# Altium schematic symbol library U_AS4C4M16D1A-66.SchLib: 1 symbol
Pins are listed as number, name and electrical type; pins without a type are passive.

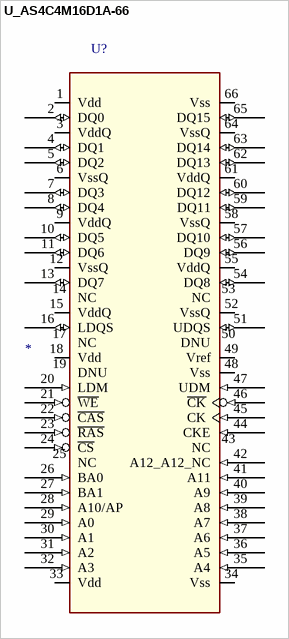
[diagram p0: symbol U_AS4C4M16D1A-66]

## U_AS4C4M16D1A-66
designator U?
pins: 1 Vdd (power), 2 DQ0 (io), 3 VddQ (power), 4 DQ1 (io), 5 DQ2 (io), 6 VssQ (power), 7 DQ3 (io), 8 DQ4 (io), 9 VddQ (power), 10 DQ5 (io), 11 DQ6 (io), 12 VssQ (power), 13 DQ7 (io), 14 NC, 15 VddQ (power), 16 LDQS (io), 17 NC, 18 Vdd (power), 19 DNU, 20 LDM (in), 21 ~{WE} (in), 22 ~{CAS} (in), 23 ~{RAS} (in), 24 ~{CS} (in), 25 NC, 26 BA0 (in), 27 BA1 (in), 28 A10/AP (in), 29 A0 (in), 30 A1 (in), 31 A2 (in), 32 A3 (in), 33 Vdd (power), 34 Vss (power), 35 A4 (in), 36 A5 (in), 37 A6 (in), 38 A7 (in), 39 A8 (in), 40 A9 (in), 41 A11 (in), 42 A12_A12_NC (in), 43 NC, 44 CKE (in), 45 CK (in), 46 ~{CK} (in), 47 UDM (in), 48 Vss (power), 49 Vref (power), 50 DNU, 51 UDQS (io), 52 VssQ (power), 53 NC, 54 DQ8 (io), 55 VddQ (power), 56 DQ9 (io), 57 DQ10 (io), 58 VssQ (power), 59 DQ11 (io), 60 DQ12 (io), 61 VddQ (power), 62 DQ13 (io), 63 DQ14 (io), 64 VssQ (power), 65 DQ15 (io), 66 Vss (power)